# EAGLE library part M20-9992046 (library KVB-connectors)
20 Positions Header Cuttable Connector 0.100" (2.54mm) Through Hole Tin
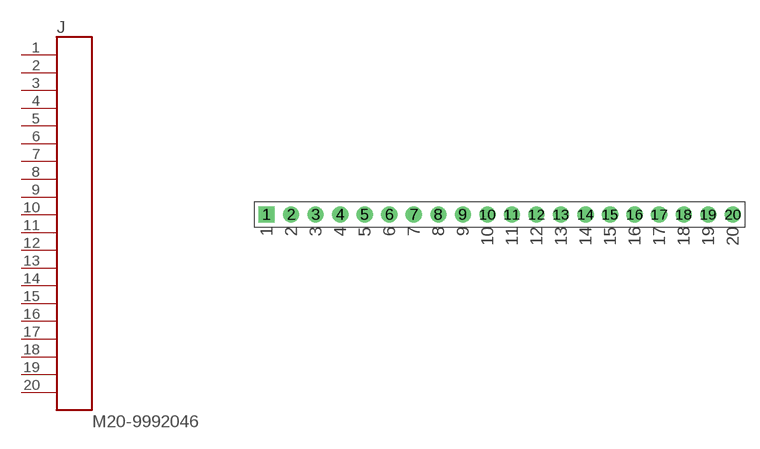
[diagram p12: symbol with the pads of M20-9992046; footprint M20-9992046]

Designator prefix J

## M20-9992046 (MAN-PART_NUM: M20-9992046; MANUFACTURER: Harwin Inc.)  [M20-9992046]
1  P$1
2  P$2
3  P$3
4  P$4
5  P$5
6  P$6
7  P$7
8  P$8
9  P$9
10  P$10
11  P$11
12  P$12
13  P$13
14  P$14
15  P$15
16  P$16
17  P$17
18  P$18
19  P$19
20  P$20

## Footprint M20-9992046 (pad centres in mm)
drill 1.016 pad 1.676 square: 1 -24.13,0
drill 1.016 pad 1.676: 2 -21.59,0; 3 -19.05,0; 4 -16.51,0; 5 -13.97,0; 6 -11.43,0; 7 -8.89,0; 8 -6.35,0; 9 -3.81,0; 10 -1.27,0; 11 1.27,0; 12 3.81,0; 13 6.35,0; 14 8.89,0; 15 11.43,0; 16 13.97,0; 17 16.51,0; 18 19.05,0; 19 21.59,0; 20 24.13,0